# Altium schematic symbol library rever2.SchLib: 4 symbols
Pins are listed as number, name and electrical type; pins without a type are passive.

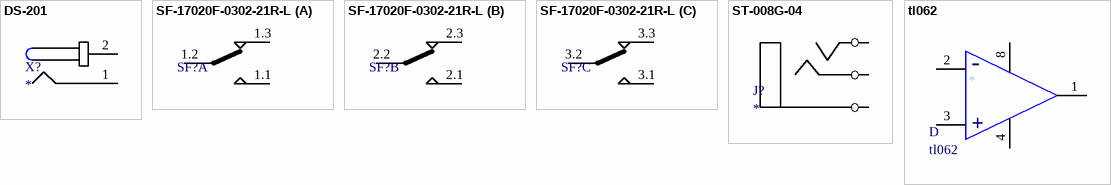
[diagram p0: symbols DS-201 to tl062]

## DS-201
designator X?
footprint DS-201
pins: 1, 2

## SF-17020F-0302-21R-L
designator SF?  (value not drawn)
footprint SF-17020F-0302-21R-L
part A pins: 1.1, 1.2, 1.3
part B pins: 2.1, 2.2, 2.3
part C pins: 3.1, 3.2, 3.3 1.3

## ST-008G-04
designator J?
footprint ST-008G-04
pins: 1, 2, 3

## tl062
designator D
pins: 1 Q hidden, 1, 2 GND hidden, 2, 3 Vp hidden, 3, 4 Vn hidden, 4, 5 LE/HYS hidden, 8
text: -; +